# Altium footprint library Sangjian_Pcb.PcbLib: 434 footprints (part 16 of 28)
Each footprint in its own frame and in the unit in brackets; x right, y up, seen from the top. Pads: shape width x height; smd on the part's side, far side on the other; paste and mask are expansions set on the pad; w line width, h text height; cw(c..) or ccw(c..) is an arc to the next point about the centre after c.
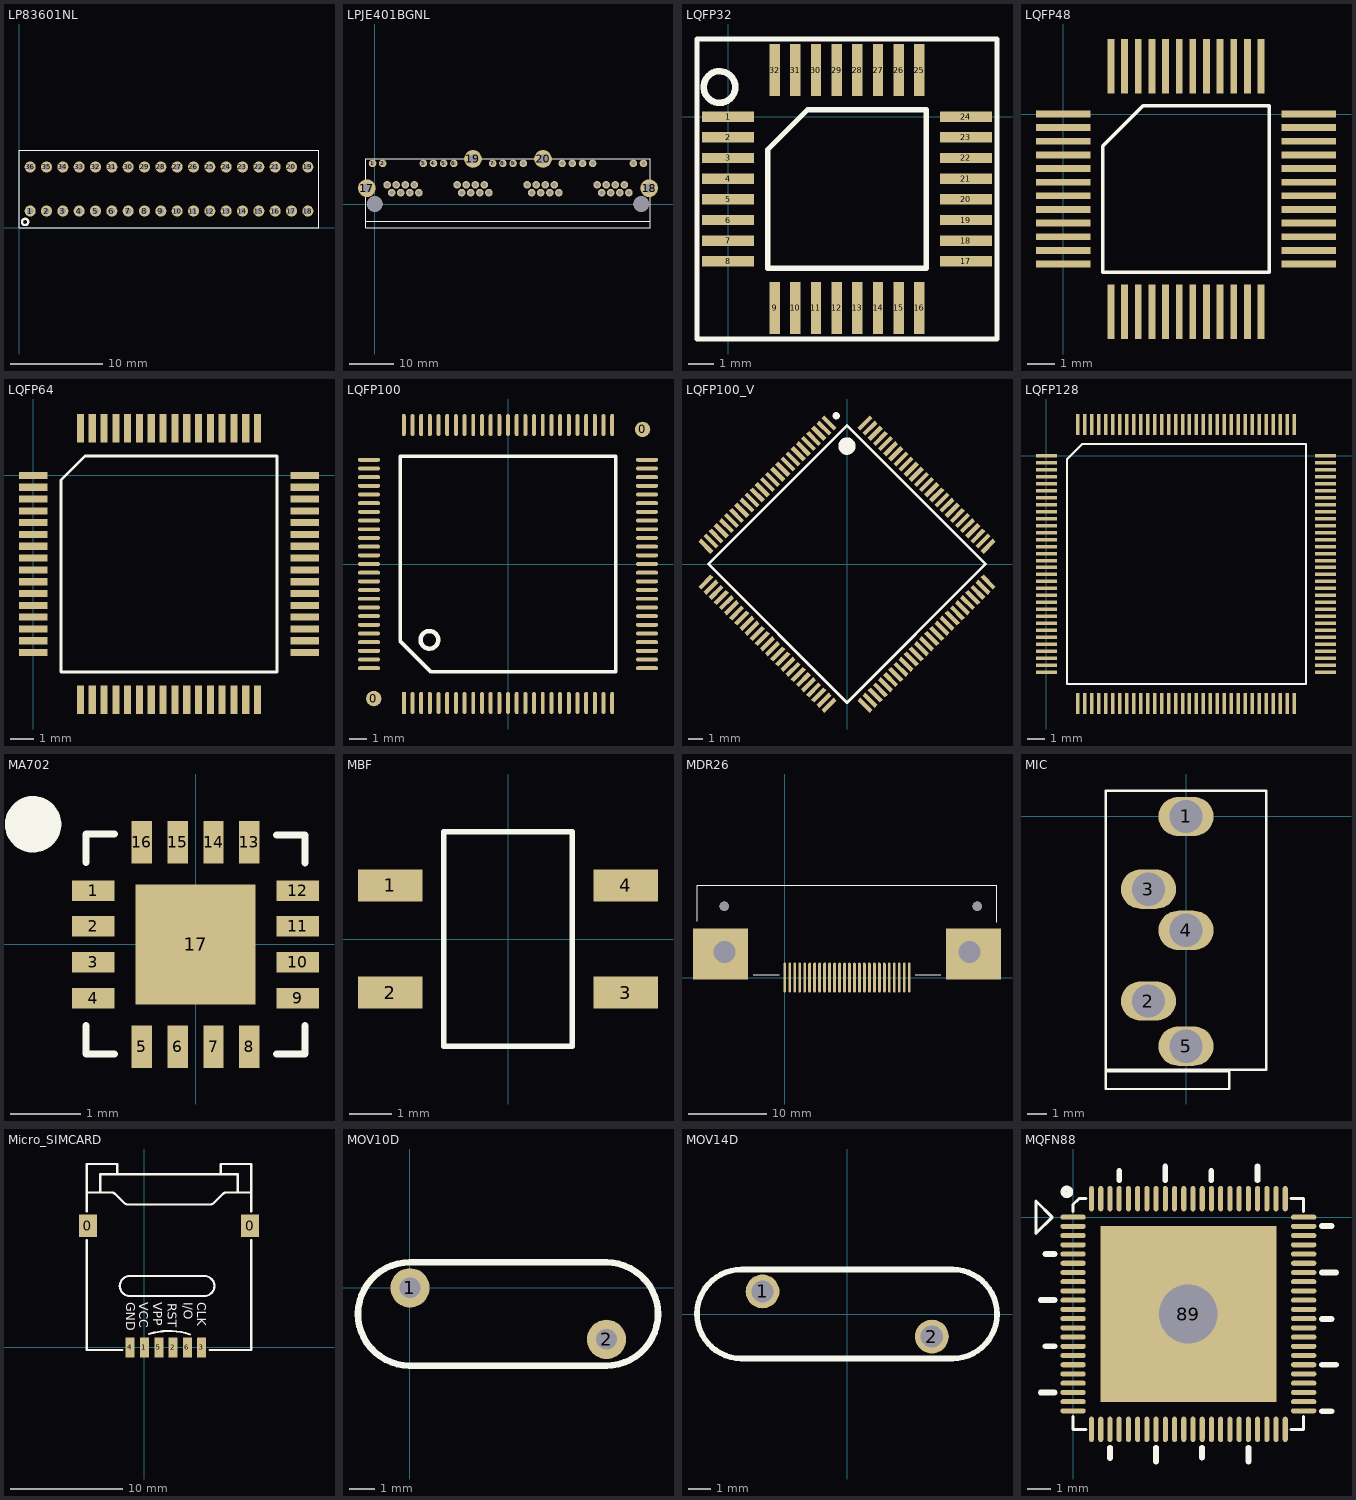
[diagram p15: the footprints below, top view; thin cyan lines are the x and y axes]

## LP83601NL [mm]
pads (36):
  round 1.2 hole 0.7: 1(1.22,1.85) 2(3,1.85) 3(4.78,1.85) 4(6.56,1.85) 5(8.34,1.85) 6(10.12,1.85) 7(11.9,1.85) 8(13.68,1.85) 9(15.46,1.85) 10(17.24,1.85) 11(19.02,1.85) 12(20.8,1.85) 13(22.58,1.85) 14(24.36,1.85) 15(26.14,1.85) 16(27.92,1.85) 17(29.7,1.85) 18(31.48,1.85) 19(31.48,6.65) 20(29.7,6.65) 21(27.92,6.65) 22(26.14,6.65) 23(24.36,6.65) 24(22.58,6.65) 25(20.8,6.65) 26(19.02,6.65) 27(17.24,6.65) 28(15.46,6.65) 29(13.68,6.65) 30(11.9,6.65) 31(10.12,6.65) 32(8.34,6.65) 33(6.56,6.65) 34(4.78,6.65) 35(3,6.65) 36(1.22,6.65)
Top Overlay:
  circle w0.254: c0.66,0.66 r0.341
  lines w0.1: 0,0 32.7,0 32.7,8.5 0,8.5 0,0

## LPJE401BGNL [mm]
pads (54):
  round 1.7 hole 1: 1(-0.515,9.13) 2(1.775,9.13) 3(10.915,9.13) 4(13.205,9.13) 5(15.495,9.13) 6(17.785,9.13) 7(26.535,9.13) 8(28.825,9.13) 9(31.115,9.13) 10(33.405,9.13) 11(42.155,9.13) 12(44.445,9.13) 13(46.735,9.13) 14(49.025,9.13) 15(58.165,9.13) 16(60.455,9.13) A1(9.915,2.54) A2(8.895,4.32) A3(7.875,2.54) A4(6.855,4.32) A5(5.835,2.54) A6(4.815,4.32) A7(3.795,2.54) A8(2.775,4.32) B1(25.665,2.54) B2(24.645,4.32) B3(23.625,2.54) B4(22.605,4.32) B5(21.585,2.54) B6(20.565,4.32) B7(19.545,2.54) B8(18.525,4.32) C1(41.415,2.54) C2(40.395,4.32) C3(39.375,2.54) C4(38.355,4.32) C5(37.335,2.54) C6(36.315,4.32) C7(35.295,2.54) C8(34.275,4.32) D1(57.165,2.54) D2(56.145,4.32) D3(55.125,2.54) D4(54.105,4.32) D5(53.085,2.54) D6(52.065,4.32) D7(51.045,2.54) D8(50.025,4.32)
  round 4 hole 2: 17(-1.78,3.56) 18(61.72,3.56) 19(22.095,10.15) 20(37.845,10.15)
  round 3.5 hole 3.5: ""(0,0) ""(59.94,0)
Top Overlay:
  lines w0.1: 61.922,-3.901 61.948,-3.876
  lines w0.2: -1.98,-3.901 61.922,-3.901 ; -2.08,-5.4 -2.08,10.17 62.02,10.17 62.02,-5.4 -2.08,-5.4

## LQFP32 [mm]
pads (32):
  rect 2x0.4 smd: 1(0,0) 2(0,-0.8) 3(0,-1.6) 4(0,-2.4) 5(0,-3.2) 6(0,-4) 7(0,-4.8) 8(0,-5.6) 17(9.2,-5.6) 18(9.2,-4.8) 19(9.2,-4) 20(9.2,-3.2) 21(9.2,-2.4) 22(9.2,-1.6) 23(9.2,-0.8) 24(9.2,0)
  rect 0.4x2 smd: 9(1.8,-7.4) 10(2.6,-7.4) 11(3.4,-7.4) 12(4.2,-7.4) 13(5,-7.4) 14(5.8,-7.4) 15(6.6,-7.4) 16(7.4,-7.4) 25(7.4,1.8) 26(6.6,1.8) 27(5.8,1.8) 28(5,1.8) 29(4.2,1.8) 30(3.4,1.8) 31(2.6,1.8) 32(1.8,1.8)
Top Overlay:
  circle w0.254: c-0.33,1.143 r0.612
  lines w0.2: -1.2,-8.6 10.4,-8.6 10.4,3 -1.2,3 -1.2,-8.6 ; 1.535,-5.865 1.535,-1.27 3.07,0.265 7.665,0.265 7.665,-5.865 1.535,-5.865

## LQFP48 [mm]
pads (48):
  rect 2x0.25 smd: 1(0,0) 2(0,-0.5) 3(0,-1) 4(0,-1.5) 5(0,-2) 6(0,-2.5) 7(0,-3) 8(0,-3.5) 9(0,-4) 10(0,-4.5) 11(0,-5) 12(0,-5.5) 25(9,-5.5) 26(9,-5) 27(9,-4.5) 28(9,-4) 29(9,-3.5) 30(9,-3) 31(9,-2.5) 32(9,-2) 33(9,-1.5) 34(9,-1) 35(9,-0.5) 36(9,0)
  rect 0.25x2 smd: 13(1.75,-7.25) 14(2.25,-7.25) 15(2.75,-7.25) 16(3.25,-7.25) 17(3.75,-7.25) 18(4.25,-7.25) 19(4.75,-7.25) 20(5.25,-7.25) 21(5.75,-7.25) 22(6.25,-7.25) 23(6.75,-7.25) 24(7.25,-7.25) 37(7.25,1.75) 38(6.75,1.75) 39(6.25,1.75) 40(5.75,1.75) 41(5.25,1.75) 42(4.75,1.75) 43(4.25,1.75) 44(3.75,1.75) 45(3.25,1.75) 46(2.75,1.75) 47(2.25,1.75) 48(1.75,1.75)
Top Overlay:
  lines w0.127: 1.45,-5.8 7.55,-5.8 7.55,0.3 2.925,0.3 1.45,-1.175 1.45,-5.8

## LQFP64 [mm]
pads (64):
  rect 1.2x0.3 smd: 1(0,0) 2(0,-0.5) 3(0,-1) 4(0,-1.5) 5(0,-2) 6(0,-2.5) 7(0,-3) 8(0,-3.5) 9(0,-4) 10(0,-4.5) 11(0,-5) 12(0,-5.5) 13(0,-6) 14(0,-6.5) 15(0,-7) 16(0,-7.5) 33(11.5,-7.5) 34(11.5,-7) 35(11.5,-6.5) 36(11.5,-6) 37(11.5,-5.5) 38(11.5,-5) 39(11.5,-4.5) 40(11.5,-4) 41(11.5,-3.5) 42(11.5,-3) 43(11.5,-2.5) 44(11.5,-2) 45(11.5,-1.5) 46(11.5,-1) 47(11.5,-0.5) 48(11.5,0)
  rect 0.3x1.2 smd: 17(2,-9.5) 18(2.5,-9.5) 19(3,-9.5) 20(3.5,-9.5) 21(4,-9.5) 22(4.5,-9.5) 23(5,-9.5) 24(5.5,-9.5) 25(6,-9.5) 26(6.5,-9.5) 27(7,-9.5) 28(7.5,-9.5) 29(8,-9.5) 30(8.5,-9.5) 31(9,-9.5) 32(9.5,-9.5) 49(9.5,2) 50(9,2) 51(8.5,2) 52(8,2) 53(7.5,2) 54(7,2) 55(6.5,2) 56(6,2) 57(5.5,2) 58(5,2) 59(4.5,2) 60(4,2) 61(3.5,2) 62(3,2) 63(2.5,2) 64(2,2)
Top Overlay:
  lines w0.127: 1.178,-8.322 10.322,-8.322 10.322,0.822 2.194,0.822 1.178,-0.194 1.178,-8.322

## LQFP100 [mm]
pads (102):
  round 0.889 smd: 0(-7.727,-7.746) 0(7.746,7.748)
  rect 0.229x1.27 smd: 1(-6,-8)
  oval 0.229x1.27 smd: 2(-5.5,-8) 3(-5,-8) 4(-4.5,-8) 5(-4,-8) 6(-3.5,-8) 7(-3,-8) 8(-2.5,-8) 9(-2,-8) 10(-1.5,-8) 11(-1,-8) 12(-0.5,-8) 13(0,-8) 14(0.5,-8) 15(1,-8) 16(1.5,-8) 17(2,-8) 18(2.5,-8) 19(3,-8) 20(3.5,-8) 21(4,-8) 22(4.5,-8) 23(5,-8) 24(5.5,-8) 25(6,-8) 51(6,8) 52(5.5,8) 53(5,8) 54(4.5,8) 55(4,8) 56(3.5,8) 57(3,8) 58(2.5,8) 59(2,8) 60(1.5,8) 61(1,8) 62(0.5,8) 63(0,8) 64(-0.5,8) 65(-1,8) 66(-1.5,8) 67(-2,8) 68(-2.5,8) 69(-3,8) 70(-3.5,8) 71(-4,8) 72(-4.5,8) 73(-5,8) 74(-5.5,8) 75(-6,8)
  oval 1.27x0.229 smd: 26(8,-6) 27(8,-5.5) 28(8,-5) 29(8,-4.5) 30(8,-4) 31(8,-3.5) 32(8,-3) 33(8,-2.5) 34(8,-2) 35(8,-1.5) 36(8,-1) 37(8,-0.5) 38(8,0) 39(8,0.5) 40(8,1) 41(8,1.5) 42(8,2) 43(8,2.5) 44(8,3) 45(8,3.5) 46(8,4) 47(8,4.5) 48(8,5) 49(8,5.5) 50(8,6) 76(-8,6) 77(-8,5.5) 78(-8,5) 79(-8,4.5) 80(-8,4) 81(-8,3.5) 82(-8,3) 83(-8,2.5) 84(-8,2) 85(-8,1.5) 86(-8,1) 87(-8,0.5) 88(-8,0) 89(-8,-0.5) 90(-8,-1) 91(-8,-1.5) 92(-8,-2) 93(-8,-2.5) 94(-8,-3) 95(-8,-3.5) 96(-8,-4) 97(-8,-4.5) 98(-8,-5) 99(-8,-5.5) 100(-8,-6)
Top Overlay:
  circle w0.254: c-4.527,-4.368 r0.508
  lines w0.2: -6.215,-4.43 -4.43,-6.215 6.215,-6.215 6.215,6.215 -6.215,6.215 -6.215,-4.43

## LQFP100_V [mm]
pads (100):
  rect 0.3x1.2 smd rot 45: 1(-1.237,9.723) 2(-1.591,9.369) 3(-1.945,9.016) 4(-2.298,8.662) 5(-2.652,8.309) 6(-3.005,7.955) 7(-3.359,7.601) 8(-3.712,7.248) 9(-4.066,6.894) 10(-4.419,6.541) 11(-4.773,6.187) 12(-5.127,5.834) 13(-5.48,5.48) 14(-5.834,5.127) 15(-6.187,4.773) 16(-6.541,4.419) 17(-6.894,4.066) 18(-7.248,3.712) 19(-7.601,3.359) 20(-7.955,3.005) 21(-8.309,2.652) 22(-8.662,2.298) 23(-9.016,1.945) 24(-9.369,1.591) 25(-9.723,1.237) 51(1.237,-9.723) 52(1.591,-9.369) 53(1.945,-9.016) 54(2.298,-8.662) 55(2.652,-8.309) 56(3.005,-7.955) 57(3.359,-7.601) 58(3.712,-7.248) 59(4.066,-6.894) 60(4.419,-6.541) 61(4.773,-6.187) 62(5.127,-5.834) 63(5.48,-5.48) 64(5.834,-5.127) 65(6.187,-4.773) 66(6.541,-4.419) 67(6.894,-4.066) 68(7.248,-3.712) 69(7.601,-3.359) 70(7.955,-3.005) 71(8.309,-2.652) 72(8.662,-2.298) 73(9.016,-1.945) 74(9.369,-1.591) 75(9.723,-1.237)
  rect 0.3x1.2 smd rot 135: 26(-9.723,-1.237) 27(-9.369,-1.591) 28(-9.016,-1.945) 29(-8.662,-2.298) 30(-8.309,-2.652) 31(-7.955,-3.005) 32(-7.601,-3.359) 33(-7.248,-3.712) 34(-6.894,-4.066) 35(-6.541,-4.419) 36(-6.187,-4.773) 37(-5.834,-5.127) 38(-5.48,-5.48) 39(-5.127,-5.834) 40(-4.773,-6.187) 41(-4.419,-6.541) 42(-4.066,-6.894) 43(-3.712,-7.248) 44(-3.359,-7.601) 45(-3.005,-7.955) 46(-2.652,-8.309) 47(-2.298,-8.662) 48(-1.945,-9.016) 49(-1.591,-9.369) 50(-1.237,-9.723) 76(9.723,1.237) 77(9.369,1.591) 78(9.016,1.945) 79(8.662,2.298) 80(8.309,2.652) 81(7.955,3.005) 82(7.601,3.359) 83(7.248,3.712) 84(6.894,4.066) 85(6.541,4.419) 86(6.187,4.773) 87(5.834,5.127) 88(5.48,5.48) 89(5.127,5.834) 90(4.773,6.187) 91(4.419,6.541) 92(4.066,6.894) 93(3.712,7.248) 94(3.359,7.601) 95(3.005,7.955) 96(2.652,8.309) 97(2.298,8.662) 98(1.945,9.016) 99(1.591,9.369) 100(1.237,9.723)
Top Overlay:
  circle w0.25: c-0.742,10.218 r0.125
  circle w0.6: c0,8.132 r0.3
  lines w0.2: -9.546,0 0,9.546 9.546,0 0,-9.546 -9.546,0

## LQFP128 [mm]
pads (128):
  rect 1.2x0.2 smd: 1(0,0) 2(0,-0.4) 3(0,-0.8) 4(0,-1.2) 5(0,-1.6) 6(0,-2) 7(0,-2.4) 8(0,-2.8) 9(0,-3.2) 10(0,-3.6) 11(0,-4) 12(0,-4.4) 13(0,-4.8) 14(0,-5.2) 15(0,-5.6) 16(0,-6) 17(0,-6.4) 18(0,-6.8) 19(0,-7.2) 20(0,-7.6) 21(0,-8) 22(0,-8.4) 23(0,-8.8) 24(0,-9.2) 25(0,-9.6) 26(0,-10) 27(0,-10.4) 28(0,-10.8) 29(0,-11.2) 30(0,-11.6) 31(0,-12) 32(0,-12.4) 65(16,-12.4) 66(16,-12) 67(16,-11.6) 68(16,-11.2) 69(16,-10.8) 70(16,-10.4) 71(16,-10) 72(16,-9.6) 73(16,-9.2) 74(16,-8.8) 75(16,-8.4) 76(16,-8) 77(16,-7.6) 78(16,-7.2) 79(16,-6.8) 80(16,-6.4) 81(16,-6) 82(16,-5.6) 83(16,-5.2) 84(16,-4.8) 85(16,-4.4) 86(16,-4) 87(16,-3.6) 88(16,-3.2) 89(16,-2.8) 90(16,-2.4) 91(16,-2) 92(16,-1.6) 93(16,-1.2) 94(16,-0.8) 95(16,-0.4) 96(16,0)
  rect 0.2x1.2 smd: 33(1.8,-14.2) 34(2.2,-14.2) 35(2.6,-14.2) 36(3,-14.2) 37(3.4,-14.2) 38(3.8,-14.2) 39(4.2,-14.2) 40(4.6,-14.2) 41(5,-14.2) 42(5.4,-14.2) 43(5.8,-14.2) 44(6.2,-14.2) 45(6.6,-14.2) 46(7,-14.2) 47(7.4,-14.2) 48(7.8,-14.2) 49(8.2,-14.2) 50(8.6,-14.2) 51(9,-14.2) 52(9.4,-14.2) 53(9.8,-14.2) 54(10.2,-14.2) 55(10.6,-14.2) 56(11,-14.2) 57(11.4,-14.2) 58(11.8,-14.2) 59(12.2,-14.2) 60(12.6,-14.2) 61(13,-14.2) 62(13.4,-14.2) 63(13.8,-14.2) 64(14.2,-14.2) 97(14.2,1.8) 98(13.8,1.8) 99(13.4,1.8) 100(13,1.8) 101(12.6,1.8) 102(12.2,1.8) 103(11.8,1.8) 104(11.4,1.8) 105(11,1.8) 106(10.6,1.8) 107(10.2,1.8) 108(9.8,1.8) 109(9.4,1.8) 110(9,1.8) 111(8.6,1.8) 112(8.2,1.8) 113(7.8,1.8) 114(7.4,1.8) 115(7,1.8) 116(6.6,1.8) 117(6.2,1.8) 118(5.8,1.8) 119(5.4,1.8) 120(5,1.8) 121(4.6,1.8) 122(4.2,1.8) 123(3.8,1.8) 124(3.4,1.8) 125(3,1.8) 126(2.6,1.8) 127(2.2,1.8) 128(1.8,1.8)
Top Overlay:
  lines w0.127: 1.178,-13.075 14.875,-13.075 14.875,0.675 2.047,0.675 1.178,-0.194 1.178,-13.075

## MA702 [mm]
pads (17):
  rect 0.6x0.29 smd paste+0 mask+0: 1(-1.448,0.762) 2(-1.448,0.254) 3(-1.448,-0.254) 4(-1.448,-0.762) 9(1.448,-0.762) 10(1.448,-0.254) 11(1.448,0.254) 12(1.448,0.762)
  rect 0.29x0.6 smd paste+0 mask+0: 5(-0.762,-1.448) 6(-0.254,-1.448) 7(0.254,-1.448) 8(0.762,-1.448) 13(0.762,1.448) 14(0.254,1.448) 15(-0.254,1.448) 16(-0.762,1.448)
  rect 1.7x1.7 all layers, no hole paste+0 mask+0: 17(0,0)
Top Overlay:
  circle w0.4: c-2.3,1.7 r0.2
  lines w0.1: -1.55,-1.15 -1.55,-1.55 -1.15,-1.55 ; -1.55,1.16 -1.55,1.56 -1.15,1.56 ; 1.15,-1.55 1.55,-1.55 1.55,-1.15 ; 1.15,1.55 1.55,1.55 1.55,1.15

## MBF [mil]
pads (4):
  rect 60x30 smd: 1(-110,50) 2(-110,-50) 3(110,-50) 4(110,50)
Top Overlay:
  lines w5: -60,-100 60,-100 60,100 -60,100 -60,-100

## MDR26 [mm]
pads (28):
  oval 0.36x3.82 smd: 1(0,0) 2(1.27,0) 3(2.54,0) 4(3.81,0) 5(5.08,0) 6(6.35,0) 7(7.62,0) 8(8.89,0) 9(10.16,0) 10(11.43,0) 11(12.7,0) 12(13.97,0) 13(15.24,0) 14(0.635,0) 15(1.905,0) 16(3.175,0) 17(4.445,0) 18(5.715,0) 19(6.985,0) 20(8.255,0) 21(9.525,0) 22(10.795,0) 23(12.065,0) 24(13.335,0) 25(14.605,0) 26(15.875,0)
  rect 7x6.5 hole 2.79 copper offset -0.5,-0.25: ""(-7.692,3.25)
  rect 7x6.5 hole 2.79 copper offset 0.5,-0.25: ""(23.568,3.25)
via 24.567,9.09 diameter 1.2 hole 1.2
via -7.692,9.09 diameter 1.2 hole 1.2
Top Overlay:
  lines w0.127: -11.155,7.2 -11.155,11.75 27.045,11.75 27.045,7.075 ; -3.992,0.35 -0.705,0.35 ; 16.62,0.35 19.883,0.35

## MIC [mm]
pads (5):
  oval 2.8x2 hole 1.7: 1(0,0) 2(-1.91,-9.4) 3(-1.91,-3.7) 4(0,-5.8) 5(0,-11.7)
Top Overlay:
  lines w0.127: -4.09,-13.88 2.2,-13.88 2.2,-12.97 -4.09,-12.97 -4.09,-13.88 ; -4.09,-12.9 -4.09,1.3 4.09,1.3 4.09,-12.9 -4.09,-12.9

## Micro_SIMCARD [mm]
pads (8):
  rect 1.6x2 smd: 0(-5.02,10.8) 0(9.38,10.8)
  rect 0.8x1.8 smd: 1(0,0) 2(2.54,0) 3(5.08,0) 4(-1.27,0) 5(1.27,0) 6(3.81,0)
Top Overlay:
  lines w0.2: -5.12,9.525 -5.12,-0.229 -1.96,-0.229 ; -5.12,12.09 -5.12,16.3 -2.42,16.3 -2.42,15.4 ; -5.11,13.767 -2.938,13.767 cw(c-2.938,13.246) -2.57,13.614 -1.799,12.844 ccw(c-1.452,13.191) -1.452,12.7 5.812,12.7 ccw(c5.812,13.191) 6.159,12.844 6.93,13.614 cw(c7.298,13.246) 7.298,13.767 9.47,13.767 ; -3.92,13.767 -3.92,15.4 8.28,15.4 8.28,13.767 ; -1.376,4.572 5.33,4.572 ccw(c5.33,5.461) 6.219,5.461 ccw(c5.33,5.461) 5.33,6.35 -1.3,6.35 ccw(c-1.3,5.461) -2.189,5.461 ccw(c-1.3,5.461) -1.3,4.572 ; 0.41,1.193 cw(c2.18,-4.445) 4.056,1.158 ; 5.787,-0.229 9.48,-0.229 9.48,9.525 ; 6.78,15.4 6.78,16.3 9.48,16.3 9.48,12.09
  text "VCC" at -0.483,4.013 h0.8
  text "RST" at 2.083,3.912 h0.8
  text "CLK" at 4.674,4.013 h0.8
  text "GND" at -1.6,4.013 h0.8
  text "VPP" at 0.787,4.039 h0.8
  text "I/O" at 3.48,4.013 h0.8

## MOV10D [mil]
pads (2):
  round 60 hole 31.5: 1(0,0) 2(300,-78.74)
Top Overlay:
  lines w10: -0.73,-118.74 cw(c-0.57,-40) 0,38.74 300,38.74 cw(c299.84,-40) 299.27,-118.74 ; 0,-118.74 300,-118.74

## MOV14D [mil]
pads (2):
  round 60 hole 39.37: 1(-150,40) 2(150,-40)
Top Overlay:
  lines w10: -187.58,-78.74 cw(c-187.42,0) -186.85,78.74 186.85,78.74 cw(c186.69,0) 186.12,-78.74 ; -186.85,-78.74 186.85,-78.74

## MQFN88 [mm]
pads (89):
  oval 1.1x0.22 smd: 1(0,0) 2(0,-0.4) 3(0,-0.8) 4(0,-1.2) 5(0,-1.6) 6(0,-2) 7(0,-2.4) 8(0,-2.8) 9(0,-3.2) 10(0,-3.6) 11(0,-4) 12(0,-4.4) 13(0,-4.8) 14(0,-5.2) 15(0,-5.6) 16(0,-6) 17(0,-6.4) 18(0,-6.8) 19(0,-7.2) 20(0,-7.6) 21(0,-8) 22(0,-8.4) 45(10,-8.4) 46(10,-8) 47(10,-7.6) 48(10,-7.2) 49(10,-6.8) 50(10,-6.4) 51(10,-6) 52(10,-5.6) 53(10,-5.2) 54(10,-4.8) 55(10,-4.4) 56(10,-4) 57(10,-3.6) 58(10,-3.2) 59(10,-2.8) 60(10,-2.4) 61(10,-2) 62(10,-1.6) 63(10,-1.2) 64(10,-0.8) 65(10,-0.4) 66(10,0)
  oval 0.22x1.1 smd: 23(0.8,-9.2) 24(1.2,-9.2) 25(1.6,-9.2) 26(2,-9.2) 27(2.4,-9.2) 28(2.8,-9.2) 29(3.2,-9.2) 30(3.6,-9.2) 31(4,-9.2) 32(4.4,-9.2) 33(4.8,-9.2) 34(5.2,-9.2) 35(5.6,-9.2) 36(6,-9.2) 37(6.4,-9.2) 38(6.8,-9.2) 39(7.2,-9.2) 40(7.6,-9.2) 41(8,-9.2) 42(8.4,-9.2) 43(8.8,-9.2) 44(9.2,-9.2) 67(9.2,0.8) 68(8.8,0.8) 69(8.4,0.8) 70(8,0.8) 71(7.6,0.8) 72(7.2,0.8) 73(6.8,0.8) 74(6.4,0.8) 75(6,0.8) 76(5.6,0.8) 77(5.2,0.8) 78(4.8,0.8) 79(4.4,0.8) 80(4,0.8) 81(3.6,0.8) 82(3.2,0.8) 83(2.8,0.8) 84(2.4,0.8) 85(2,0.8) 86(1.6,0.8) 87(1.2,0.8) 88(0.8,0.8)
  rect 7.62x7.62 / inner round 4 / far side round 4 hole 2.54: 89(5,-4.2)
Top Overlay:
  circle w0.254: c-0.266,1.097 r0.146
  lines w0.127: 0,-8.645 0,-9.2 0.555,-9.2 ; 0,0.245 0,0.546 0.254,0.8 0.555,0.8 ; 9.445,-9.2 10,-9.2 10,-8.645 ; 9.445,0.8 10,0.8 10,0.245 ; -1.606,-0.702 -1.606,0.698 -0.906,-0.002 -1.606,-0.702
  lines w0.254: -1.4,-7.61 -0.8,-7.61 ; -1.4,-3.6 -0.8,-3.6 ; -1.2,-5.6 -0.8,-5.6 ; -1.2,-1.6 -0.8,-1.6 ; 1.6,-10.448 1.6,-10 ; 2,1.6 2,2 ; 3.6,-10.6 3.6,-10 ; 4,1.6 4,2.2 ; 5.59,-10.418 5.59,-10 ; 5.99,1.6 5.99,2 ; 7.6,-10.6 7.6,-10 ; 8,1.6 8,2.2 ; 10.8,-8.414 11.2,-8.414 ; 10.8,-6.4 11.4,-6.4 ; 10.8,-4.414 11.2,-4.414 ; 10.8,-2.4 11.4,-2.4 ; 10.8,-0.384 11.2,-0.384